# Altium footprint library PV Buck v2.PcbLib: 31 footprints (part 2 of 2)
Each footprint in its own frame and in the unit in brackets; x right, y up, seen from the top. Pads: shape width x height; smd on the part's side, far side on the other; paste and mask are expansions set on the pad; w line width, h text height; cw(c..) or ccw(c..) is an arc to the next point about the centre after c.
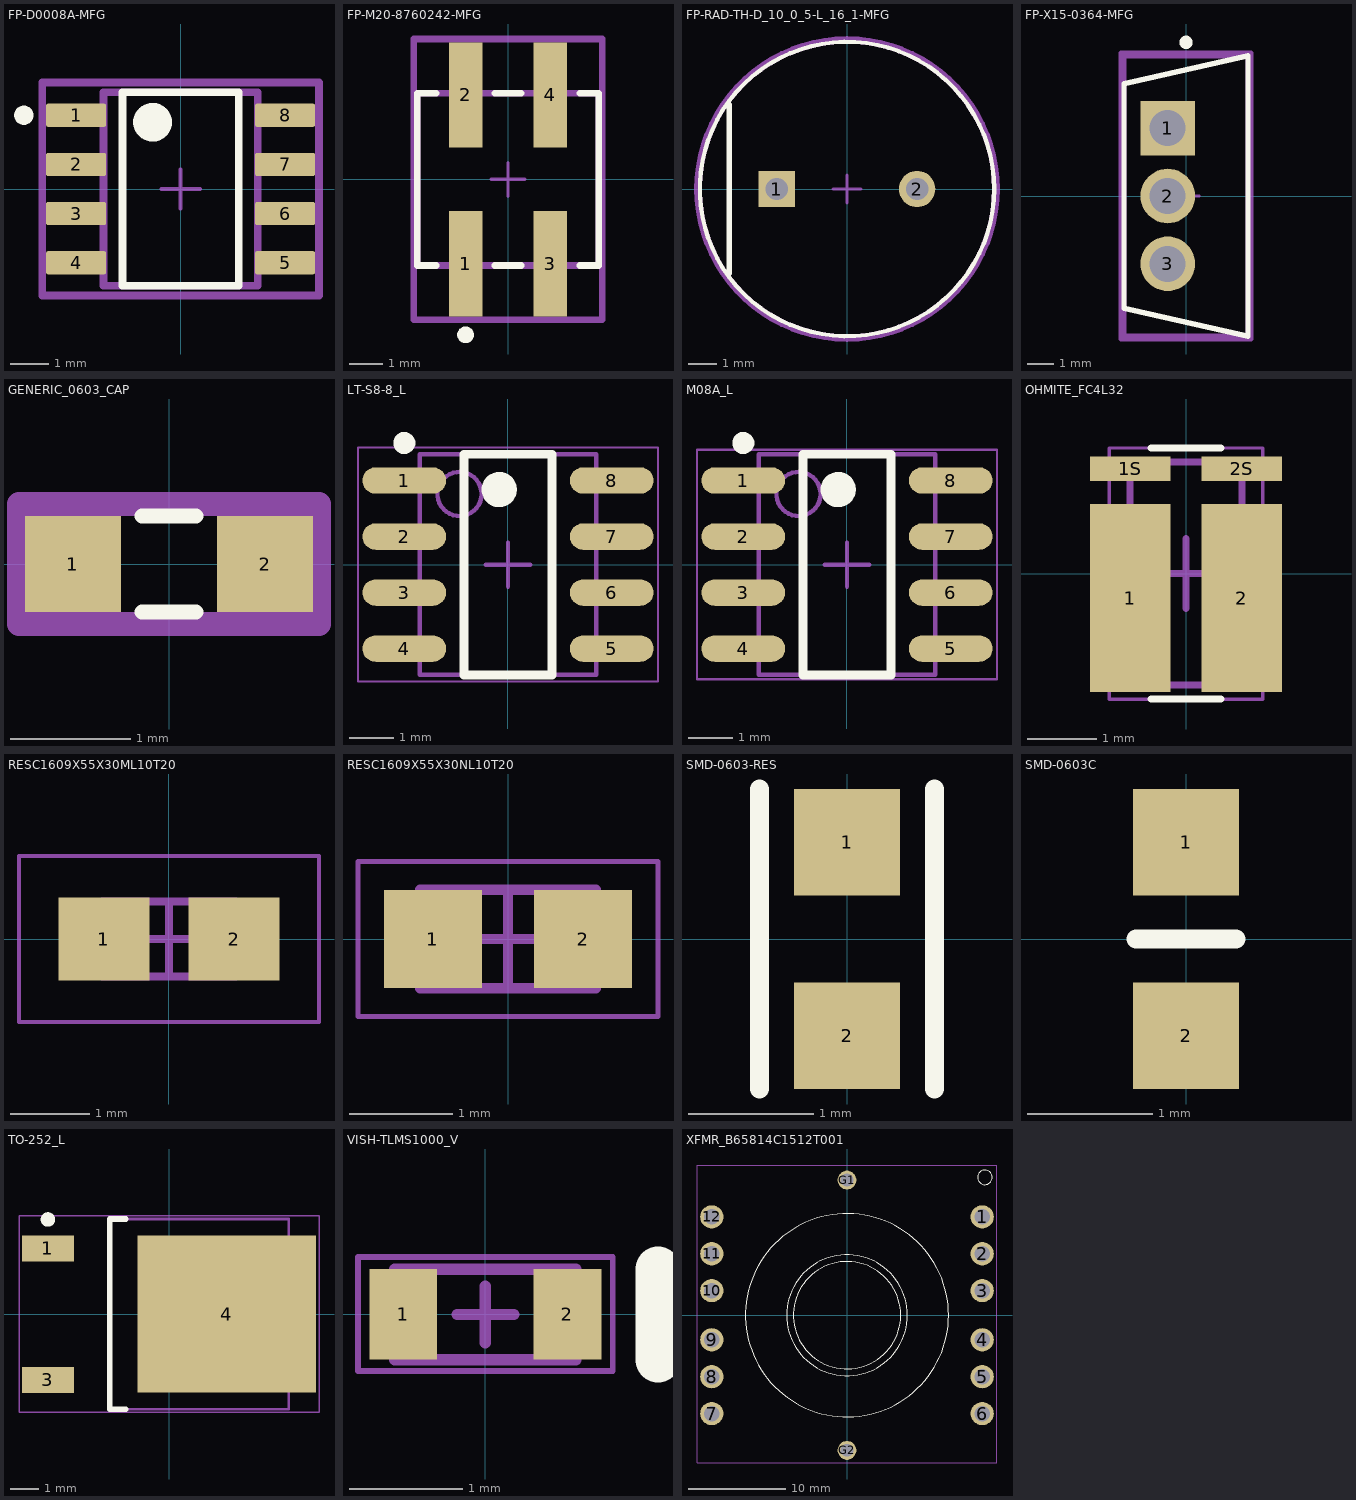
[diagram p1: the footprints below, top view; thin cyan lines are the x and y axes]

## FP-D0008A-MFG [mm]
pads (8):
  rrect17% 1.55x0.6 smd paste+0 mask+0: 1(-2.7,1.905) 2(-2.7,0.635) 3(-2.7,-0.635) 4(-2.7,-1.905) 5(2.7,-1.905) 6(2.7,-0.635) 7(2.7,0.635) 8(2.7,1.905)
Top Overlay:
  circle w0.25: c-4.05,1.905 r0.125
  circle w0.5: c-0.725,1.725 r0.25
  lines w0.2: -1.5,-2.5 1.5,-2.5 1.5,2.5 -1.5,2.5 -1.5,-2.5
Top Assembly:
  lines w0.2: -3.575,-2.75 3.575,-2.75 3.575,2.75 -3.575,2.75 -3.575,-2.75
  text ".Designator" at 0,0.188 h1
Top 3D Body:
  lines w0.2: -1.99,-2.5 1.99,-2.5 1.99,2.5 -1.99,2.5 -1.99,-2.5
Top Courtyard:
  lines w0.2: -3.575,-2.75 3.575,-2.75 3.575,2.75 -3.575,2.75 -3.575,-2.75
Top Component Center:
  lines w0.1: -0.5,0 0.5,0 ; 0,-0.5 0,0.5
3D body "IC_Texas_Instruments_ISO7220ADR_eec.STEP": height 0.25, standoff 0, extent -3.575,-2.75 3.575,2.75

## FP-M20-8760242-MFG [mm]
pads (4):
  rect 1x3.15 smd paste+0 mask+0: 1(-1.27,-2.525) 2(-1.27,2.525) 3(1.27,-2.525) 4(1.27,2.525)
Top Overlay:
  circle w0.25: c-1.27,-4.65 r0.125
  lines w0.2: -2.145,-2.575 -2.715,-2.575 -2.715,2.575 -2.145,2.575 ; -0.395,-2.575 0.395,-2.575 ; -0.395,2.575 0.395,2.575 ; 2.145,-2.575 2.715,-2.575 2.715,2.575 2.145,2.575
Top Assembly:
  lines w0.2: -2.815,-4.2 2.815,-4.2 2.815,4.2 -2.815,4.2 -2.815,-4.2
  text ".Designator" at 0,0.188 h1
Top 3D Body:
  lines w0.2: -2.715,-2.575 2.715,-2.575 2.715,2.575 -2.715,2.575 -2.715,-2.575
Top Courtyard:
  lines w0.2: -2.815,-4.2 2.815,-4.2 2.815,4.2 -2.815,4.2 -2.815,-4.2
Top Component Center:
  lines w0.1: -0.5,0 0.5,0 ; 0,-0.5 0,0.5
3D body "Conn_Harwin_M20-8760242_eec.STEP": height 0.25, standoff 0, extent -2.815,-4.2 2.815,4.2

## FP-RAD-TH-D_10_0_5-L_16_1-MFG [mm]
pads (2):
  rect 1.3x1.3 hole 0.8 paste-2539.97 mask+0: 1(-2.5,0)
  round 1.3 hole 0.8 paste-2539.97 mask+0: 2(2.5,0)
Top Overlay:
  circle w0.15: c0,0 r5.25
  lines w0.2: -4.2,-3 -4.2,3
Top Assembly:
  text ".Designator" at 0,0.188 h1
Top 3D Body:
  circle w0.15: c0,0 r5.25
Top Courtyard:
  lines w0.2: -5.35,0 cw(c0,0) 5.35,0 cw(c0,0) -5.35,0
Top Component Center:
  lines w0.1: -0.5,0 0.5,0 ; 0,-0.5 0,0.5
3D body "Cap_Panasonic_EEUTA1J470_eec.STEP": height 0.25, standoff 0, extent -5.35,-5.35 5.35,5.35

## FP-X15-0364-MFG [mm]
pads (3):
  rect 2.05x2.05 hole 1.35 paste-2539.97 mask+0: 1(-0.685,2.54)
  round 2.05 hole 1.35 paste-2539.97 mask+0: 2(-0.685,0) 3(-0.685,-2.54)
Top Overlay:
  circle w0.25: c0,5.76 r0.125
  lines w0.2: 2.325,-5.26 -2.325,-4.208 -2.325,4.208 2.325,5.26 ; 2.325,-5.21 2.325,5.21
Top Assembly:
  lines w0.2: -2.425,-5.36 -2.425,5.36 2.425,5.36 2.425,-5.36 -2.425,-5.36
  text ".Designator" at 0,0 h1
Top 3D Body:
  lines w0.2: -2.325,-5.26 -2.325,5.26 2.325,5.26 2.325,-5.26 -2.325,-5.26
Top Courtyard:
  lines w0.2: -2.425,-5.36 -2.425,5.36 2.425,5.36 2.425,-5.36 -2.425,-5.36
Top Component Center:
  lines w0.1: -0.5,0 0.5,0 ; 0,-0.5 0,0.5
3D body "Trans_Vishay_IRF830APBF_eec.STEP": height 0.25, standoff 0, extent -2.425,-5.36 2.425,5.36

## GENERIC_0603_CAP [mil]
pads (2):
  rect 31.5x31.5 smd: 1(-31.5,0) 2(31.5,0)
Top Overlay:
  lines w5: -8.86,-15.75 8.86,-15.75 ; -8.86,15.75 8.86,15.75
Top 3D Body:
  lines w7.87: -49.21,-19.68 49.21,-19.68 49.21,19.68 -49.21,19.68 -49.21,-19.68
  text ".designator" at -50,35 h30
3D body: height 17.72, standoff 0, extent -31.5,-15.75 -19.68,15.75
3D body: height 17.72, standoff 0, extent 19.68,-15.75 31.5,15.75
3D body: height 17.72, standoff 0, extent -19.68,-15.75 19.68,15.75

## LT-S8-8_L [mm]
pads (8):
  oval 1.9x0.6 smd: 1(-2.35,1.905) 2(-2.35,0.635) 3(-2.35,-0.635) 4(-2.35,-1.905) 5(2.35,-1.905) 6(2.35,-0.635) 7(2.35,0.635) 8(2.35,1.905)
Top Overlay:
  circle w0.4: c-0.2,1.7 r0.2
  circle w0.25: c-2.35,2.755 r0.125
  lines w0.2: -1,-2.5 1,-2.5 1,2.5 -1,2.5 -1,-2.5
Top 3D Body:
  circle w0.1: c-1.1,1.6 r0.5
  lines w0.1: -2,-2.5 2,-2.5 2,2.5 -2,2.5 -2,-2.5
Top Courtyard:
  lines w0.05: -3.4,-2.65 3.4,-2.65 3.4,2.65 -3.4,2.65 -3.4,-2.65
  lines w0.1: -0.5,0 0.5,0 ; 0,-0.5 0,0.5
3D body: height 1.76, standoff 0.1, extent -2,-2.5 2,2.5

## M08A_L [mm]
pads (8):
  oval 1.9x0.6 smd: 1(-2.35,1.905) 2(-2.35,0.635) 3(-2.35,-0.635) 4(-2.35,-1.905) 5(2.35,-1.905) 6(2.35,-0.635) 7(2.35,0.635) 8(2.35,1.905)
Top Overlay:
  circle w0.25: c-2.35,2.755 r0.125
  circle w0.4: c-0.2,1.7 r0.2
  lines w0.2: -1,-2.5 -1,2.5 1,2.5 1,-2.5 -1,-2.5
Top 3D Body:
  circle w0.1: c-1.1,1.6 r0.5
  lines w0.1: -2,-2.5 -2,2.5 2,2.5 2,-2.5 -2,-2.5
Top Courtyard:
  lines w0.05: -3.4,-2.6 -3.4,2.6 3.4,2.6 3.4,-2.6 -3.4,-2.6
  lines w0.1: -0.5,0 0.5,0 ; 0,-0.5 0,0.5
3D body: height 1.75, standoff 0.1, extent -2,-2.5 2,2.5

## OHMITE_FC4L32 [mm]
pads (4):
  rect 1.15x2.7 smd: 1(-0.8,-0.35) 2(0.8,-0.35)
  rect 1.15x0.35 smd: 1S(-0.8,1.5) 2S(0.8,1.5)
Top Overlay:
  lines w0.1: -0.5,-1.8 0.5,-1.8 ; -0.5,1.8 0.5,1.8
Top 3D Body:
  lines w0.1: -0.8,-1.6 0.8,-1.6 0.8,1.6 -0.8,1.6 -0.8,-1.6
Top Courtyard:
  lines w0.05: -1.1,-1.8 1.1,-1.8 1.1,1.8 -1.1,1.8 -1.1,-1.8
  lines w0.1: -0.5,0 0.5,0 ; 0,-0.5 0,0.5
3D body: height 0.5, standoff 0, extent 0.45,-1.6 0.8,1.6
3D body: height 0.5, standoff 0, extent -0.8,-1.6 -0.45,1.6
3D body: height 0.5, standoff 0, extent -0.45,-1.6 0.45,1.6

## RESC1609X55X30ML10T20 [mm]
pads (2):
  rect 1.15x1.05 smd: 1(-0.825,0) 2(0.825,0)
Top 3D Body:
  lines w0.1: -0.85,-0.475 0.85,-0.475 0.85,0.475 -0.85,0.475 -0.85,-0.475
Top Courtyard:
  lines w0.05: -1.9,-1.05 1.9,-1.05 1.9,1.05 -1.9,1.05 -1.9,-1.05
  lines w0.1: -0.475,0 0.475,0 ; 0,-0.475 0,0.475
3D body: height 0.55, standoff 0, extent 0.55,-0.475 0.85,0.475
3D body: height 0.55, standoff 0, extent -0.85,-0.475 -0.55,0.475
3D body: height 0.55, standoff 0, extent -0.55,-0.475 0.55,0.475

## RESC1609X55X30NL10T20 [mm]
pads (2):
  rect 0.95x0.95 smd: 1(-0.725,0) 2(0.725,0)
Top 3D Body:
  lines w0.1: -0.85,-0.475 0.85,-0.475 0.85,0.475 -0.85,0.475 -0.85,-0.475
Top Courtyard:
  lines w0.05: -1.45,-0.75 1.45,-0.75 1.45,0.75 -1.45,0.75 -1.45,-0.75
  lines w0.1: -0.475,0 0.475,0 ; 0,-0.475 0,0.475
3D body: height 0.55, standoff 0, extent 0.55,-0.475 0.85,0.475
3D body: height 0.55, standoff 0, extent -0.85,-0.475 -0.55,0.475
3D body: height 0.55, standoff 0, extent -0.55,-0.475 0.55,0.475

## SMD-0603-RES [mm]
pads (2):
  rect 0.85x0.85 smd: 1(0,0.775) 2(0,-0.775)
Top Overlay:
  lines w0.152: -0.7,-1.2 -0.7,1.2 ; 0.7,-1.2 0.7,1.2
3D body "0603.step": height 0.56, standoff 0, extent -0.4,-0.85 0.4,0.85

## SMD-0603C [mm]
pads (2):
  rect 0.85x0.85 smd: 1(0,0.775) 2(0,-0.775)
Top Overlay:
  lines w0.152: -0.4,0 0.4,0
3D body "capacitor 0603.step": height 0.9, standoff 0, extent -0.4,-0.8 0.4,0.8

## TO-252_L [mm]
pads (3):
  rect 1.8x0.9 smd: 1(-4.2,2.28) 3(-4.2,-2.28)
  rect 6.2x5.45 smd: 4(2,0)
Top Overlay:
  circle w0.25: c-4.2,3.28 r0.125
  lines w0.2: -1.5,-3.3 -2.05,-3.3 -2.05,3.3 -1.5,3.3
Top 3D Body:
  lines w0.1: -2.05,-3.3 4.15,-3.3 4.15,3.3 -2.05,3.3 -2.05,-3.3
Top Courtyard:
  lines w0.05: -5.2,-3.4 5.2,-3.4 5.2,3.4 -5.2,3.4 -5.2,-3.4
  lines w0.1: -0.5,0 0.5,0 ; 0,-0.5 0,0.5
3D body: height 2.4, standoff 0, extent -2.05,-3.3 4.15,3.3

## VISH-TLMS1000_V [mm]
pads (2):
  rect 0.6x0.8 smd: 1(-0.725,0) 2(0.725,0)
Top Overlay:
  lines w0.4: 1.525,-0.4 1.525,0.4
Top 3D Body:
  lines w0.1: -0.8,-0.4 -0.8,0.4 0.8,0.4 0.8,-0.4 -0.8,-0.4
Top Courtyard:
  lines w0.05: -1.125,0.5 -1.125,-0.5 1.125,-0.5 1.125,0.5 ; -1.125,0.508 1.125,0.508
  lines w0.1: -0.25,0 0.25,0 ; 0,-0.25 0,0.25
3D body: height 0.65, standoff 0, extent -0.8,-0.4 0.8,0.4

## XFMR_B65814C1512T001 [mm]
pads (14):
  round 2.4 hole 1.6: 1(13.97,10.16) 2(13.97,6.35) 3(13.97,2.54) 4(13.97,-2.54) 5(13.97,-6.35) 6(13.97,-10.16) 7(-13.97,-10.16) 8(-13.97,-6.35) 9(-13.97,-2.54) 10(-13.97,2.54) 11(-13.97,6.35) 12(-13.97,10.16)
  round 1.95 hole 1.3: G1(0,13.97) G2(0,-13.97)
Top Overlay:
  circle w0: c14.25,14.25 r0.75
  circle w0.127: c0,0 r10.5
  circle w0.127: c0,0 r5.55
  circle w0.127: c0,0 r6.25
Top Courtyard:
  lines w0.127: -15.5,-15.25 -15.5,15.5 15.5,15.5 15.5,-15.25 -15.5,-15.25